# Altium schematic symbol library WE-LHCA.SchLib: 53 symbols
Pins are listed as number, name and electrical type; pins without a type are passive.

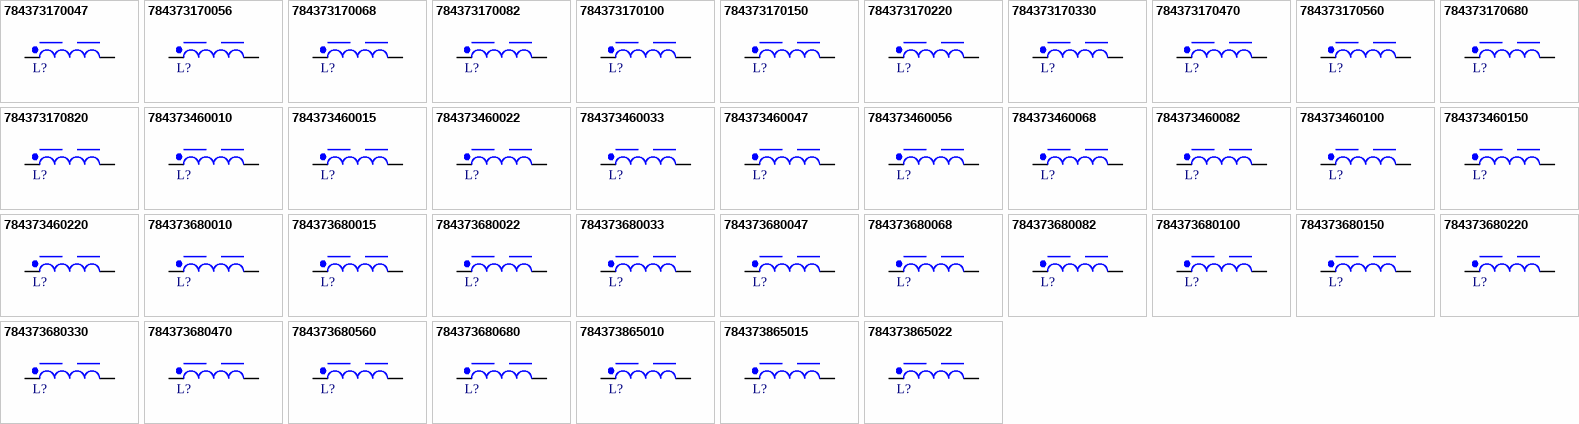
[diagram p0: symbols 784373170047 to 784373865022]

## 784373170047
designator L?, comment 4.7uH, 24.5A  (value not drawn)
WE-LHCA Low Profile High Current Inductor, SMT, size 1770, 4.7uH, 24.5A; Manufacturer Part Number: 784373170047; Manufacturer: Wurth Elektronik; Case/Size Code: 1770; DC Resistance: 4.4mOhm; Saturation Current: 39.5A; Category: Power Inductors; Match Code: WE-LHCA; ComponentLink1Description: Website Link; ComponentLink1URL: https://www.we-online.com/redexpert/article/784373170047?ad; ComponentLink2Description: Datasheet Link; ComponentLink2URL: https://www.we-online.com/redexpert/spec/784373170047?ad; Mount: Surface Mount; Operating Temperature Max: 155°C; Operating Temperature Min: -55°C; Packaging: Tape and Reel; Length: 17.45mm; Width: 16.95mm; Height: 6.8mm; Inductance: 4.7uH; Performance Rated Current: 24.5A
footprint WE-LHCA_1770
pins: 1, 2

## 784373170056
designator L?, comment 5.6uH, 21.5A  (value not drawn)
WE-LHCA Low Profile High Current Inductor, SMT, size 1770, 5.6uH, 21.5A; Manufacturer Part Number: 784373170056; Manufacturer: Wurth Elektronik; Case/Size Code: 1770; DC Resistance: 5.8mOhm; Saturation Current: 40.85A; Category: Power Inductors; Match Code: WE-LHCA; ComponentLink1Description: Website Link; ComponentLink1URL: https://www.we-online.com/redexpert/article/784373170056?ad; ComponentLink2Description: Datasheet Link; ComponentLink2URL: https://www.we-online.com/redexpert/spec/784373170056?ad; Mount: Surface Mount; Operating Temperature Max: 155°C; Operating Temperature Min: -55°C; Packaging: Tape and Reel; Length: 17.45mm; Width: 16.95mm; Height: 6.8mm; Inductance: 5.6uH; Performance Rated Current: 21.5A
footprint WE-LHCA_1770
pins: 1, 2

## 784373170068
designator L?, comment 6.8uH, 19.7A  (value not drawn)
WE-LHCA Low Profile High Current Inductor, SMT, size 1770, 6.8uH, 19.7A; Manufacturer Part Number: 784373170068; Manufacturer: Wurth Elektronik; Case/Size Code: 1770; DC Resistance: 7mOhm; Saturation Current: 33A; Category: Power Inductors; Match Code: WE-LHCA; ComponentLink1Description: Website Link; ComponentLink1URL: https://www.we-online.com/redexpert/article/784373170068?ad; ComponentLink2Description: Datasheet Link; ComponentLink2URL: https://www.we-online.com/redexpert/spec/784373170068?ad; Mount: Surface Mount; Operating Temperature Max: 155°C; Operating Temperature Min: -55°C; Packaging: Tape and Reel; Length: 17.45mm; Width: 16.95mm; Height: 6.8mm; Inductance: 6.8uH; Performance Rated Current: 19.7A
footprint WE-LHCA_1770
pins: 1, 2

## 784373170082
designator L?, comment 8.2uH, 18.4A  (value not drawn)
WE-LHCA Low Profile High Current Inductor, SMT, size 1770, 8.2uH, 18.4A; Manufacturer Part Number: 784373170082; Manufacturer: Wurth Elektronik; Case/Size Code: 1770; DC Resistance: 8.2mOhm; Saturation Current: 32.1A; Category: Power Inductors; Match Code: WE-LHCA; ComponentLink1Description: Website Link; ComponentLink1URL: https://www.we-online.com/redexpert/article/784373170082?ad; ComponentLink2Description: Datasheet Link; ComponentLink2URL: https://www.we-online.com/redexpert/spec/784373170082?ad; Mount: Surface Mount; Operating Temperature Max: 155°C; Operating Temperature Min: -55°C; Packaging: Tape and Reel; Length: 17.45mm; Width: 16.95mm; Height: 6.8mm; Inductance: 8.2uH; Performance Rated Current: 18.4A
footprint WE-LHCA_1770
pins: 1, 2

## 784373170100
designator L?, comment 10uH, 16A  (value not drawn)
WE-LHCA Low Profile High Current Inductor, SMT, size 1770, 10uH, 16A; Manufacturer Part Number: 784373170100; Manufacturer: Wurth Elektronik; Case/Size Code: 1770; DC Resistance: 10mOhm; Saturation Current: 26A; Category: Power Inductors; Match Code: WE-LHCA; ComponentLink1Description: Website Link; ComponentLink1URL: https://www.we-online.com/redexpert/article/784373170100?ad; ComponentLink2Description: Datasheet Link; ComponentLink2URL: https://www.we-online.com/redexpert/spec/784373170100?ad; Mount: Surface Mount; Operating Temperature Max: 155°C; Operating Temperature Min: -55°C; Packaging: Tape and Reel; Length: 17.45mm; Width: 16.95mm; Height: 6.8mm; Inductance: 10uH; Performance Rated Current: 16A
footprint WE-LHCA_1770
pins: 1, 2

## 784373170150
designator L?, comment 15uH, 12.4A  (value not drawn)
WE-LHCA Low Profile High Current Inductor, SMT, size 1770, 15uH, 12.4A; Manufacturer Part Number: 784373170150; Manufacturer: Wurth Elektronik; Case/Size Code: 1770; DC Resistance: 17mOhm; Saturation Current: 21.7A; Category: Power Inductors; Match Code: WE-LHCA; ComponentLink1Description: Website Link; ComponentLink1URL: https://www.we-online.com/redexpert/article/784373170150?ad; ComponentLink2Description: Datasheet Link; ComponentLink2URL: https://www.we-online.com/redexpert/spec/784373170150?ad; Mount: Surface Mount; Operating Temperature Max: 155°C; Operating Temperature Min: -55°C; Packaging: Tape and Reel; Length: 17.45mm; Width: 16.95mm; Height: 6.8mm; Inductance: 15uH; Performance Rated Current: 12.4A
footprint WE-LHCA_1770
pins: 1, 2

## 784373170220
designator L?, comment 22uH, 10.9A  (value not drawn)
WE-LHCA Low Profile High Current Inductor, SMT, size 1770, 22uH, 10.9A; Manufacturer Part Number: 784373170220; Manufacturer: Wurth Elektronik; Case/Size Code: 1770; DC Resistance: 22mOhm; Saturation Current: 17.15A; Category: Power Inductors; Match Code: WE-LHCA; ComponentLink1Description: Website Link; ComponentLink1URL: https://www.we-online.com/redexpert/article/784373170220?ad; ComponentLink2Description: Datasheet Link; ComponentLink2URL: https://www.we-online.com/redexpert/spec/784373170220?ad; Mount: Surface Mount; Operating Temperature Max: 155°C; Operating Temperature Min: -55°C; Packaging: Tape and Reel; Length: 17.45mm; Width: 16.95mm; Height: 6.8mm; Inductance: 22uH; Performance Rated Current: 10.9A
footprint WE-LHCA_1770
pins: 1, 2

## 784373170330
designator L?, comment 33uH, 9.1A  (value not drawn)
WE-LHCA Low Profile High Current Inductor, SMT, size 1770, 33uH, 9.1A; Manufacturer Part Number: 784373170330; Manufacturer: Wurth Elektronik; Case/Size Code: 1770; DC Resistance: 30mOhm; Saturation Current: 15.6A; Category: Power Inductors; Match Code: WE-LHCA; ComponentLink1Description: Website Link; ComponentLink1URL: https://www.we-online.com/redexpert/article/784373170330?ad; ComponentLink2Description: Datasheet Link; ComponentLink2URL: https://www.we-online.com/redexpert/spec/784373170330?ad; Mount: Surface Mount; Operating Temperature Max: 155°C; Operating Temperature Min: -55°C; Packaging: Tape and Reel; Length: 17.45mm; Width: 16.95mm; Height: 6.8mm; Inductance: 33uH; Performance Rated Current: 9.1A
footprint WE-LHCA_1770
pins: 1, 2

## 784373170470
designator L?, comment 47uH, 7.5A  (value not drawn)
WE-LHCA Low Profile High Current Inductor, SMT, size 1770, 47uH, 7.5A; Manufacturer Part Number: 784373170470; Manufacturer: Wurth Elektronik; Case/Size Code: 1770; DC Resistance: 48mOhm; Saturation Current: 13.05A; Category: Power Inductors; Match Code: WE-LHCA; ComponentLink1Description: Website Link; ComponentLink1URL: https://www.we-online.com/redexpert/article/784373170470?ad; ComponentLink2Description: Datasheet Link; ComponentLink2URL: https://www.we-online.com/redexpert/spec/784373170470?ad; Mount: Surface Mount; Operating Temperature Max: 155°C; Operating Temperature Min: -55°C; Packaging: Tape and Reel; Length: 17.45mm; Width: 16.95mm; Height: 6.8mm; Inductance: 47uH; Performance Rated Current: 7.5A
footprint WE-LHCA_1770
pins: 1, 2

## 784373170560
designator L?, comment 56uH, 7.1A  (value not drawn)
WE-LHCA Low Profile High Current Inductor, SMT, size 1770, 56uH, 7.1A; Manufacturer Part Number: 784373170560; Manufacturer: Wurth Elektronik; Case/Size Code: 1770; DC Resistance: 52mOhm; Saturation Current: 10.3A; Category: Power Inductors; Match Code: WE-LHCA; ComponentLink1Description: Website Link; ComponentLink1URL: https://www.we-online.com/redexpert/article/784373170560?ad; ComponentLink2Description: Datasheet Link; ComponentLink2URL: https://www.we-online.com/redexpert/spec/784373170560?ad; Mount: Surface Mount; Operating Temperature Max: 155°C; Operating Temperature Min: -55°C; Packaging: Tape and Reel; Length: 17.45mm; Width: 16.95mm; Height: 6.8mm; Inductance: 56uH; Performance Rated Current: 7.1A
footprint WE-LHCA_1770
pins: 1, 2

## 784373170680
designator L?, comment 68uH, 5.9A  (value not drawn)
WE-LHCA Low Profile High Current Inductor, SMT, size 1770, 68uH, 5.9A; Manufacturer Part Number: 784373170680; Manufacturer: Wurth Elektronik; Case/Size Code: 1770; DC Resistance: 75mOhm; Saturation Current: 8.2A; Category: Power Inductors; Match Code: WE-LHCA; ComponentLink1Description: Website Link; ComponentLink1URL: https://www.we-online.com/redexpert/article/784373170680?ad; ComponentLink2Description: Datasheet Link; ComponentLink2URL: https://www.we-online.com/redexpert/spec/784373170680?ad; Mount: Surface Mount; Operating Temperature Max: 155°C; Operating Temperature Min: -55°C; Packaging: Tape and Reel; Length: 17.45mm; Width: 16.95mm; Height: 6.8mm; Inductance: 68uH; Performance Rated Current: 5.9A
footprint WE-LHCA_1770
pins: 1, 2

## 784373170820
designator L?, comment 82uH, 4.9A  (value not drawn)
WE-LHCA Low Profile High Current Inductor, SMT, size 1770, 82uH, 4.9A; Manufacturer Part Number: 784373170820; Manufacturer: Wurth Elektronik; Case/Size Code: 1770; DC Resistance: 90mOhm; Saturation Current: 9.6A; Category: Power Inductors; Match Code: WE-LHCA; ComponentLink1Description: Website Link; ComponentLink1URL: https://www.we-online.com/redexpert/article/784373170820?ad; ComponentLink2Description: Datasheet Link; ComponentLink2URL: https://www.we-online.com/redexpert/spec/784373170820?ad; Mount: Surface Mount; Operating Temperature Max: 155°C; Operating Temperature Min: -55°C; Packaging: Tape and Reel; Length: 17.45mm; Width: 16.95mm; Height: 6.8mm; Inductance: 82uH; Performance Rated Current: 4.9A
footprint WE-LHCA_1770
pins: 1, 2

## 784373460010
designator L?, comment 1uH, 11.6A  (value not drawn)
WE-LHCA Low Profile High Current Inductor, SMT, size 7030, 1uH, 11.6A; Manufacturer Part Number: 784373460010; Manufacturer: Wurth Elektronik; Case/Size Code: 7030; DC Resistance: 6.3mOhm; Saturation Current: 19.2A; Category: Power Inductors; Match Code: WE-LHCA; ComponentLink1Description: Website Link; ComponentLink1URL: https://www.we-online.com/redexpert/article/784373460010?ad; ComponentLink2Description: Datasheet Link; ComponentLink2URL: https://www.we-online.com/redexpert/spec/784373460010?ad; Mount: Surface Mount; Operating Temperature Max: 155°C; Operating Temperature Min: -55°C; Packaging: Tape and Reel; Length: 6.95mm; Width: 6.6mm; Height: 2.8mm; Inductance: 1uH; Performance Rated Current: 11.6A
footprint WE-LHCA_7030
pins: 1, 2

## 784373460015
designator L?, comment 1.5uH, 9A  (value not drawn)
WE-LHCA Low Profile High Current Inductor, SMT, size 7030, 1.5uH, 9A; Manufacturer Part Number: 784373460015; Manufacturer: Wurth Elektronik; Case/Size Code: 7030; DC Resistance: 10.3mOhm; Saturation Current: 16A; Category: Power Inductors; Match Code: WE-LHCA; ComponentLink1Description: Website Link; ComponentLink1URL: https://www.we-online.com/redexpert/article/784373460015?ad; ComponentLink2Description: Datasheet Link; ComponentLink2URL: https://www.we-online.com/redexpert/spec/784373460015?ad; Mount: Surface Mount; Operating Temperature Max: 155°C; Operating Temperature Min: -55°C; Packaging: Tape and Reel; Length: 6.95mm; Width: 6.6mm; Height: 2.8mm; Inductance: 1.5uH; Performance Rated Current: 9A
footprint WE-LHCA_7030
pins: 1, 2

## 784373460022
designator L?, comment 2.2uH, 7.5A  (value not drawn)
WE-LHCA Low Profile High Current Inductor, SMT, size 7030, 2.2uH, 7.5A; Manufacturer Part Number: 784373460022; Manufacturer: Wurth Elektronik; Case/Size Code: 7030; DC Resistance: 15mOhm; Saturation Current: 12A; Category: Power Inductors; Match Code: WE-LHCA; ComponentLink1Description: Website Link; ComponentLink1URL: https://www.we-online.com/redexpert/article/784373460022?ad; ComponentLink2Description: Datasheet Link; ComponentLink2URL: https://www.we-online.com/redexpert/spec/784373460022?ad; Mount: Surface Mount; Operating Temperature Max: 155°C; Operating Temperature Min: -55°C; Packaging: Tape and Reel; Length: 6.95mm; Width: 6.6mm; Height: 2.8mm; Inductance: 2.2uH; Performance Rated Current: 7.5A
footprint WE-LHCA_7030
pins: 1, 2

## 784373460033
designator L?, comment 3.3uH, 6.3A  (value not drawn)
WE-LHCA Low Profile High Current Inductor, SMT, size 7030, 3.3uH, 6.3A; Manufacturer Part Number: 784373460033; Manufacturer: Wurth Elektronik; Case/Size Code: 7030; DC Resistance: 21mOhm; Saturation Current: 11.4A; Category: Power Inductors; Match Code: WE-LHCA; ComponentLink1Description: Website Link; ComponentLink1URL: https://www.we-online.com/redexpert/article/784373460033?ad; ComponentLink2Description: Datasheet Link; ComponentLink2URL: https://www.we-online.com/redexpert/spec/784373460033?ad; Mount: Surface Mount; Operating Temperature Max: 155°C; Operating Temperature Min: -55°C; Packaging: Tape and Reel; Length: 6.95mm; Width: 6.6mm; Height: 2.8mm; Inductance: 3.3uH; Performance Rated Current: 6.3A
footprint WE-LHCA_7030
pins: 1, 2

## 784373460047
designator L?, comment 4.7uH, 5.6A  (value not drawn)
WE-LHCA Low Profile High Current Inductor, SMT, size 7030, 4.7uH, 5.6A; Manufacturer Part Number: 784373460047; Manufacturer: Wurth Elektronik; Case/Size Code: 7030; DC Resistance: 27mOhm; Saturation Current: 9.3A; Category: Power Inductors; Match Code: WE-LHCA; ComponentLink1Description: Website Link; ComponentLink1URL: https://www.we-online.com/redexpert/article/784373460047?ad; ComponentLink2Description: Datasheet Link; ComponentLink2URL: https://www.we-online.com/redexpert/spec/784373460047?ad; Mount: Surface Mount; Operating Temperature Max: 155°C; Operating Temperature Min: -55°C; Packaging: Tape and Reel; Length: 6.95mm; Width: 6.6mm; Height: 2.8mm; Inductance: 4.7uH; Performance Rated Current: 5.6A
footprint WE-LHCA_7030
pins: 1, 2

## 784373460056
designator L?, comment 5.6uH, 4.9A  (value not drawn)
WE-LHCA Low Profile High Current Inductor, SMT, size 7030, 5.6uH, 4.9A; Manufacturer Part Number: 784373460056; Manufacturer: Wurth Elektronik; Case/Size Code: 7030; DC Resistance: 35mOhm; Saturation Current: 8A; Category: Power Inductors; Match Code: WE-LHCA; ComponentLink1Description: Website Link; ComponentLink1URL: https://www.we-online.com/redexpert/article/784373460056?ad; ComponentLink2Description: Datasheet Link; ComponentLink2URL: https://www.we-online.com/redexpert/spec/784373460056?ad; Mount: Surface Mount; Operating Temperature Max: 155°C; Operating Temperature Min: -55°C; Packaging: Tape and Reel; Length: 6.95mm; Width: 6.6mm; Height: 2.8mm; Inductance: 5.6uH; Performance Rated Current: 4.9A
footprint WE-LHCA_7030
pins: 1, 2

## 784373460068
designator L?, comment 6.8uH, 4.5A  (value not drawn)
WE-LHCA Low Profile High Current Inductor, SMT, size 7030, 6.8uH, 4.5A; Manufacturer Part Number: 784373460068; Manufacturer: Wurth Elektronik; Case/Size Code: 7030; DC Resistance: 41mOhm; Saturation Current: 7.7A; Category: Power Inductors; Match Code: WE-LHCA; ComponentLink1Description: Website Link; ComponentLink1URL: https://www.we-online.com/redexpert/article/784373460068?ad; ComponentLink2Description: Datasheet Link; ComponentLink2URL: https://www.we-online.com/redexpert/spec/784373460068?ad; Mount: Surface Mount; Operating Temperature Max: 155°C; Operating Temperature Min: -55°C; Packaging: Tape and Reel; Length: 6.95mm; Width: 6.6mm; Height: 2.8mm; Inductance: 6.8uH; Performance Rated Current: 4.5A
footprint WE-LHCA_7030
pins: 1, 2

## 784373460082
designator L?, comment 8.2uH, 4.1A  (value not drawn)
WE-LHCA Low Profile High Current Inductor, SMT, size 7030, 8.2uH, 4.1A; Manufacturer Part Number: 784373460082; Manufacturer: Wurth Elektronik; Case/Size Code: 7030; DC Resistance: 50mOhm; Saturation Current: 5.5A; Category: Power Inductors; Match Code: WE-LHCA; ComponentLink1Description: Website Link; ComponentLink1URL: https://www.we-online.com/redexpert/article/784373460082?ad; ComponentLink2Description: Datasheet Link; ComponentLink2URL: https://www.we-online.com/redexpert/spec/784373460082?ad; Mount: Surface Mount; Operating Temperature Max: 155°C; Operating Temperature Min: -55°C; Packaging: Tape and Reel; Length: 6.95mm; Width: 6.6mm; Height: 2.8mm; Inductance: 8.2uH; Performance Rated Current: 4.1A
footprint WE-LHCA_7030
pins: 1, 2

## 784373460100
designator L?, comment 10uH, 3.7A  (value not drawn)
WE-LHCA Low Profile High Current Inductor, SMT, size 7030, 10uH, 3.7A; Manufacturer Part Number: 784373460100; Manufacturer: Wurth Elektronik; Case/Size Code: 7030; DC Resistance: 61mOhm; Saturation Current: 6A; Category: Power Inductors; Match Code: WE-LHCA; ComponentLink1Description: Website Link; ComponentLink1URL: https://www.we-online.com/redexpert/article/784373460100?ad; ComponentLink2Description: Datasheet Link; ComponentLink2URL: https://www.we-online.com/redexpert/spec/784373460100?ad; Mount: Surface Mount; Operating Temperature Max: 155°C; Operating Temperature Min: -55°C; Packaging: Tape and Reel; Length: 6.95mm; Width: 6.6mm; Height: 2.8mm; Inductance: 10uH; Performance Rated Current: 3.7A
footprint WE-LHCA_7030
pins: 1, 2

## 784373460150
designator L?, comment 15uH, 3A  (value not drawn)
WE-LHCA Low Profile High Current Inductor, SMT, size 7030, 15uH, 3A; Manufacturer Part Number: 784373460150; Manufacturer: Wurth Elektronik; Case/Size Code: 7030; DC Resistance: 96mOhm; Saturation Current: 4.8A; Category: Power Inductors; Match Code: WE-LHCA; ComponentLink1Description: Website Link; ComponentLink1URL: https://www.we-online.com/redexpert/article/784373460150?ad; ComponentLink2Description: Datasheet Link; ComponentLink2URL: https://www.we-online.com/redexpert/spec/784373460150?ad; Mount: Surface Mount; Operating Temperature Max: 155°C; Operating Temperature Min: -55°C; Packaging: Tape and Reel; Length: 6.95mm; Width: 6.6mm; Height: 2.8mm; Inductance: 15uH; Performance Rated Current: 3A
footprint WE-LHCA_7030
pins: 1, 2

## 784373460220
designator L?, comment 22uH, 2.5A  (value not drawn)
WE-LHCA Low Profile High Current Inductor, SMT, size 7030, 22uH, 2.5A; Manufacturer Part Number: 784373460220; Manufacturer: Wurth Elektronik; Case/Size Code: 7030; DC Resistance: 163mOhm; Saturation Current: 4.5A; Category: Power Inductors; Match Code: WE-LHCA; ComponentLink1Description: Website Link; ComponentLink1URL: https://www.we-online.com/redexpert/article/784373460220?ad; ComponentLink2Description: Datasheet Link; ComponentLink2URL: https://www.we-online.com/redexpert/spec/784373460220?ad; Mount: Surface Mount; Operating Temperature Max: 155°C; Operating Temperature Min: -55°C; Packaging: Tape and Reel; Length: 6.95mm; Width: 6.6mm; Height: 2.8mm; Inductance: 22uH; Performance Rated Current: 2.5A
footprint WE-LHCA_7030
pins: 1, 2

## 784373680010
designator L?, comment 1uH, 24.5A  (value not drawn)
WE-LHCA Low Profile High Current Inductor, SMT, size 1040, 1uH, 24.5A; Manufacturer Part Number: 784373680010; Manufacturer: Wurth Elektronik; Case/Size Code: 1040; DC Resistance: 2.7mOhm; Saturation Current: 33.8A; Category: Power Inductors; Match Code: WE-LHCA; ComponentLink1Description: Website Link; ComponentLink1URL: https://www.we-online.com/redexpert/article/784373680010?ad; ComponentLink2Description: Datasheet Link; ComponentLink2URL: https://www.we-online.com/redexpert/spec/784373680010?ad; Mount: Surface Mount; Operating Temperature Max: 155°C; Operating Temperature Min: -55°C; Packaging: Tape and Reel; Length: 10.85mm; Width: 10mm; Height: 3.8mm; Inductance: 1uH; Performance Rated Current: 24.5A
footprint WE-LHCA_1040
pins: 1, 2

## 784373680015
designator L?, comment 1.5uH, 19.2A  (value not drawn)
WE-LHCA Low Profile High Current Inductor, SMT, size 1040, 1.5uH, 19.2A; Manufacturer Part Number: 784373680015; Manufacturer: Wurth Elektronik; Case/Size Code: 1040; DC Resistance: 4.2mOhm; Saturation Current: 26A; Category: Power Inductors; Match Code: WE-LHCA; ComponentLink1Description: Website Link; ComponentLink1URL: https://www.we-online.com/redexpert/article/784373680015?ad; ComponentLink2Description: Datasheet Link; ComponentLink2URL: https://www.we-online.com/redexpert/spec/784373680015?ad; Mount: Surface Mount; Operating Temperature Max: 155°C; Operating Temperature Min: -55°C; Packaging: Tape and Reel; Length: 10.85mm; Width: 10mm; Height: 3.8mm; Inductance: 1.5uH; Performance Rated Current: 19.2A
footprint WE-LHCA_1040
pins: 1, 2

## 784373680022
designator L?, comment 2.2uH, 13.6A  (value not drawn)
WE-LHCA Low Profile High Current Inductor, SMT, size 1040, 2.2uH, 13.6A; Manufacturer Part Number: 784373680022; Manufacturer: Wurth Elektronik; Case/Size Code: 1040; DC Resistance: 7.8mOhm; Saturation Current: 25.7A; Category: Power Inductors; Match Code: WE-LHCA; ComponentLink1Description: Website Link; ComponentLink1URL: https://www.we-online.com/redexpert/article/784373680022?ad; ComponentLink2Description: Datasheet Link; ComponentLink2URL: https://www.we-online.com/redexpert/spec/784373680022?ad; Mount: Surface Mount; Operating Temperature Max: 155°C; Operating Temperature Min: -55°C; Packaging: Tape and Reel; Length: 10.85mm; Width: 10mm; Height: 3.8mm; Inductance: 2.2uH; Performance Rated Current: 13.6A
footprint WE-LHCA_1040
pins: 1, 2

## 784373680033
designator L?, comment 3.3uH, 11.8A  (value not drawn)
WE-LHCA Low Profile High Current Inductor, SMT, size 1040, 3.3uH, 11.8A; Manufacturer Part Number: 784373680033; Manufacturer: Wurth Elektronik; Case/Size Code: 1040; DC Resistance: 9.9mOhm; Saturation Current: 22.1A; Category: Power Inductors; Match Code: WE-LHCA; ComponentLink1Description: Website Link; ComponentLink1URL: https://www.we-online.com/redexpert/article/784373680033?ad; ComponentLink2Description: Datasheet Link; ComponentLink2URL: https://www.we-online.com/redexpert/spec/784373680033?ad; Mount: Surface Mount; Operating Temperature Max: 155°C; Operating Temperature Min: -55°C; Packaging: Tape and Reel; Length: 10.85mm; Width: 10mm; Height: 3.8mm; Inductance: 3.3uH; Performance Rated Current: 11.8A
footprint WE-LHCA_1040
pins: 1, 2

## 784373680047
designator L?, comment 4.7uH, 10.9A  (value not drawn)
WE-LHCA Low Profile High Current Inductor, SMT, size 1040, 4.7uH, 10.9A; Manufacturer Part Number: 784373680047; Manufacturer: Wurth Elektronik; Case/Size Code: 1040; DC Resistance: 13.5mOhm; Saturation Current: 16A; Category: Power Inductors; Match Code: WE-LHCA; ComponentLink1Description: Website Link; ComponentLink1URL: https://www.we-online.com/redexpert/article/784373680047?ad; ComponentLink2Description: Datasheet Link; ComponentLink2URL: https://www.we-online.com/redexpert/spec/784373680047?ad; Mount: Surface Mount; Operating Temperature Max: 155°C; Operating Temperature Min: -55°C; Packaging: Tape and Reel; Length: 10.85mm; Width: 10mm; Height: 3.8mm; Inductance: 4.7uH; Performance Rated Current: 10.9A
footprint WE-LHCA_1040
pins: 1, 2

## 784373680068
designator L?, comment 6.8uH, 9.5A  (value not drawn)
WE-LHCA Low Profile High Current Inductor, SMT, size 1040, 6.8uH, 9.5A; Manufacturer Part Number: 784373680068; Manufacturer: Wurth Elektronik; Case/Size Code: 1040; DC Resistance: 19mOhm; Saturation Current: 13.2A; Category: Power Inductors; Match Code: WE-LHCA; ComponentLink1Description: Website Link; ComponentLink1URL: https://www.we-online.com/redexpert/article/784373680068?ad; ComponentLink2Description: Datasheet Link; ComponentLink2URL: https://www.we-online.com/redexpert/spec/784373680068?ad; Mount: Surface Mount; Operating Temperature Max: 155°C; Operating Temperature Min: -55°C; Packaging: Tape and Reel; Length: 10.85mm; Width: 10mm; Height: 3.8mm; Inductance: 6.8uH; Performance Rated Current: 9.5A
footprint WE-LHCA_1040
pins: 1, 2

## 784373680082
designator L?, comment 8.2uH, 8.7A  (value not drawn)
WE-LHCA Low Profile High Current Inductor, SMT, size 1040, 8.2uH, 8.7A; Manufacturer Part Number: 784373680082; Manufacturer: Wurth Elektronik; Case/Size Code: 1040; DC Resistance: 25mOhm; Saturation Current: 13.1A; Category: Power Inductors; Match Code: WE-LHCA; ComponentLink1Description: Website Link; ComponentLink1URL: https://www.we-online.com/redexpert/article/784373680082?ad; ComponentLink2Description: Datasheet Link; ComponentLink2URL: https://www.we-online.com/redexpert/spec/784373680082?ad; Mount: Surface Mount; Operating Temperature Max: 155°C; Operating Temperature Min: -55°C; Packaging: Tape and Reel; Length: 10.85mm; Width: 10mm; Height: 3.8mm; Inductance: 8.2uH; Performance Rated Current: 8.7A
footprint WE-LHCA_1040
pins: 1, 2

## 784373680100
designator L?, comment 10uH, 7.8A  (value not drawn)
WE-LHCA Low Profile High Current Inductor, SMT, size 1040, 10uH, 7.8A; Manufacturer Part Number: 784373680100; Manufacturer: Wurth Elektronik; Case/Size Code: 1040; DC Resistance: 28mOhm; Saturation Current: 12.2A; Category: Power Inductors; Match Code: WE-LHCA; ComponentLink1Description: Website Link; ComponentLink1URL: https://www.we-online.com/redexpert/article/784373680100?ad; ComponentLink2Description: Datasheet Link; ComponentLink2URL: https://www.we-online.com/redexpert/spec/784373680100?ad; Mount: Surface Mount; Operating Temperature Max: 155°C; Operating Temperature Min: -55°C; Packaging: Tape and Reel; Length: 10.85mm; Width: 10mm; Height: 3.8mm; Inductance: 10uH; Performance Rated Current: 7.8A
footprint WE-LHCA_1040
pins: 1, 2

## 784373680150
designator L?, comment 15uH, 6.8A  (value not drawn)
WE-LHCA Low Profile High Current Inductor, SMT, size 1040, 15uH, 6.8A; Manufacturer Part Number: 784373680150; Manufacturer: Wurth Elektronik; Case/Size Code: 1040; DC Resistance: 42mOhm; Saturation Current: 9.9A; Category: Power Inductors; Match Code: WE-LHCA; ComponentLink1Description: Website Link; ComponentLink1URL: https://www.we-online.com/redexpert/article/784373680150?ad; ComponentLink2Description: Datasheet Link; ComponentLink2URL: https://www.we-online.com/redexpert/spec/784373680150?ad; Mount: Surface Mount; Operating Temperature Max: 155°C; Operating Temperature Min: -55°C; Packaging: Tape and Reel; Length: 10.85mm; Width: 10mm; Height: 3.8mm; Inductance: 15uH; Performance Rated Current: 6.8A
footprint WE-LHCA_1040
pins: 1, 2

## 784373680220
designator L?, comment 22uH, 5.2A  (value not drawn)
WE-LHCA Low Profile High Current Inductor, SMT, size 1040, 22uH, 5.2A; Manufacturer Part Number: 784373680220; Manufacturer: Wurth Elektronik; Case/Size Code: 1040; DC Resistance: 59mOhm; Saturation Current: 7.5A; Category: Power Inductors; Match Code: WE-LHCA; ComponentLink1Description: Website Link; ComponentLink1URL: https://www.we-online.com/redexpert/article/784373680220?ad; ComponentLink2Description: Datasheet Link; ComponentLink2URL: https://www.we-online.com/redexpert/spec/784373680220?ad; Mount: Surface Mount; Operating Temperature Max: 155°C; Operating Temperature Min: -55°C; Packaging: Tape and Reel; Length: 10.85mm; Width: 10mm; Height: 3.8mm; Inductance: 22uH; Performance Rated Current: 5.2A
footprint WE-LHCA_1040
pins: 1, 2

## 784373680330
designator L?, comment 33uH, 4.1A  (value not drawn)
WE-LHCA Low Profile High Current Inductor, SMT, size 1040, 33uH, 4.1A; Manufacturer Part Number: 784373680330; Manufacturer: Wurth Elektronik; Case/Size Code: 1040; DC Resistance: 87mOhm; Saturation Current: 6.5A; Category: Power Inductors; Match Code: WE-LHCA; ComponentLink1Description: Website Link; ComponentLink1URL: https://www.we-online.com/redexpert/article/784373680330?ad; ComponentLink2Description: Datasheet Link; ComponentLink2URL: https://www.we-online.com/redexpert/spec/784373680330?ad; Mount: Surface Mount; Operating Temperature Max: 155°C; Operating Temperature Min: -55°C; Packaging: Tape and Reel; Length: 10.85mm; Width: 10mm; Height: 3.8mm; Inductance: 33uH; Performance Rated Current: 4.1A
footprint WE-LHCA_1040
pins: 1, 2

## 784373680470
designator L?, comment 47uH, 3.4A  (value not drawn)
WE-LHCA Low Profile High Current Inductor, SMT, size 1040, 47uH, 3.4A; Manufacturer Part Number: 784373680470; Manufacturer: Wurth Elektronik; Case/Size Code: 1040; DC Resistance: 140mOhm; Saturation Current: 5.85A; Category: Power Inductors; Match Code: WE-LHCA; ComponentLink1Description: Website Link; ComponentLink1URL: https://www.we-online.com/redexpert/article/784373680470?ad; ComponentLink2Description: Datasheet Link; ComponentLink2URL: https://www.we-online.com/redexpert/spec/784373680470?ad; Mount: Surface Mount; Operating Temperature Max: 155°C; Operating Temperature Min: -55°C; Packaging: Tape and Reel; Length: 10.85mm; Width: 10mm; Height: 3.8mm; Inductance: 47uH; Performance Rated Current: 3.4A
footprint WE-LHCA_1040
pins: 1, 2

## 784373680560
designator L?, comment 56uH, 2.9A  (value not drawn)
WE-LHCA Low Profile High Current Inductor, SMT, size 1040, 56uH, 2.9A; Manufacturer Part Number: 784373680560; Manufacturer: Wurth Elektronik; Case/Size Code: 1040; DC Resistance: 170mOhm; Saturation Current: 5.5A; Category: Power Inductors; Match Code: WE-LHCA; ComponentLink1Description: Website Link; ComponentLink1URL: https://www.we-online.com/redexpert/article/784373680560?ad; ComponentLink2Description: Datasheet Link; ComponentLink2URL: https://www.we-online.com/redexpert/spec/784373680560?ad; Mount: Surface Mount; Operating Temperature Max: 155°C; Operating Temperature Min: -55°C; Packaging: Tape and Reel; Length: 10.85mm; Width: 10mm; Height: 3.8mm; Inductance: 56uH; Performance Rated Current: 2.9A
footprint WE-LHCA_1040
pins: 1, 2

## 784373680680
designator L?, comment 68uH, 2.6A  (value not drawn)
WE-LHCA Low Profile High Current Inductor, SMT, size 1040, 68uH, 2.6A; Manufacturer Part Number: 784373680680; Manufacturer: Wurth Elektronik; Case/Size Code: 1040; DC Resistance: 215mOhm; Saturation Current: 4.85A; Category: Power Inductors; Match Code: WE-LHCA; ComponentLink1Description: Website Link; ComponentLink1URL: https://www.we-online.com/redexpert/article/784373680680?ad; ComponentLink2Description: Datasheet Link; ComponentLink2URL: https://www.we-online.com/redexpert/spec/784373680680?ad; Mount: Surface Mount; Operating Temperature Max: 155°C; Operating Temperature Min: -55°C; Packaging: Tape and Reel; Length: 10.85mm; Width: 10mm; Height: 3.8mm; Inductance: 68uH; Performance Rated Current: 2.6A
footprint WE-LHCA_1040
pins: 1, 2

## 784373865010
designator L?, comment 1uH, 30.5A  (value not drawn)
WE-LHCA Low Profile High Current Inductor, SMT, size 1365, 1uH, 30.5A; Manufacturer Part Number: 784373865010; Manufacturer: Wurth Elektronik; Case/Size Code: 1365; DC Resistance: 1.7mOhm; Saturation Current: 44.8A; Category: Power Inductors; Match Code: WE-LHCA; ComponentLink1Description: Website Link; ComponentLink1URL: https://www.we-online.com/redexpert/article/784373865010?ad; ComponentLink2Description: Datasheet Link; ComponentLink2URL: https://www.we-online.com/redexpert/spec/784373865010?ad; Mount: Surface Mount; Operating Temperature Max: 155°C; Operating Temperature Min: -55°C; Packaging: Tape and Reel; Length: 13.45mm; Width: 12.6mm; Height: 6.3mm; Inductance: 1uH; Performance Rated Current: 30.5A
footprint WE-LHCA_1365
pins: 1, 2

## 784373865015
designator L?, comment 1.5uH, 26A  (value not drawn)
WE-LHCA Low Profile High Current Inductor, SMT, size 1365, 1.5uH, 26A; Manufacturer Part Number: 784373865015; Manufacturer: Wurth Elektronik; Case/Size Code: 1365; DC Resistance: 2.2mOhm; Saturation Current: 32.1A; Category: Power Inductors; Match Code: WE-LHCA; ComponentLink1Description: Website Link; ComponentLink1URL: https://www.we-online.com/redexpert/article/784373865015?ad; ComponentLink2Description: Datasheet Link; ComponentLink2URL: https://www.we-online.com/redexpert/spec/784373865015?ad; Mount: Surface Mount; Operating Temperature Max: 155°C; Operating Temperature Min: -55°C; Packaging: Tape and Reel; Length: 13.45mm; Width: 12.6mm; Height: 6.3mm; Inductance: 1.5uH; Performance Rated Current: 26A
footprint WE-LHCA_1365
pins: 1, 2

## 784373865022
designator L?, comment 2.2uH, 22A  (value not drawn)
WE-LHCA Low Profile High Current Inductor, SMT, size 1365, 2.2uH, 22A; Manufacturer Part Number: 784373865022; Manufacturer: Wurth Elektronik; Case/Size Code: 1365; DC Resistance: 4mOhm; Saturation Current: 33.35A; Category: Power Inductors; Match Code: WE-LHCA; ComponentLink1Description: Website Link; ComponentLink1URL: https://www.we-online.com/redexpert/article/784373865022?ad; ComponentLink2Description: Datasheet Link; ComponentLink2URL: https://www.we-online.com/redexpert/spec/784373865022?ad; Mount: Surface Mount; Operating Temperature Max: 155°C; Operating Temperature Min: -55°C; Packaging: Tape and Reel; Length: 13.45mm; Width: 12.6mm; Height: 6.3mm; Inductance: 2.2uH; Performance Rated Current: 22A
footprint WE-LHCA_1365
pins: 1, 2

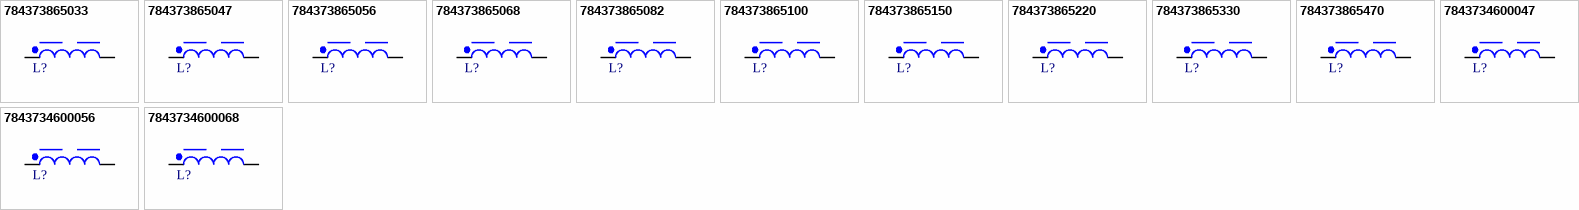
[diagram p1: symbols 784373865033 to 7843734600068]

## 784373865033
designator L?, comment 3.3uH, 19A  (value not drawn)
WE-LHCA Low Profile High Current Inductor, SMT, size 1365, 3.3uH, 19A; Manufacturer Part Number: 784373865033; Manufacturer: Wurth Elektronik; Case/Size Code: 1365; DC Resistance: 5mOhm; Saturation Current: 27.1A; Category: Power Inductors; Match Code: WE-LHCA; ComponentLink1Description: Website Link; ComponentLink1URL: https://www.we-online.com/redexpert/article/784373865033?ad; ComponentLink2Description: Datasheet Link; ComponentLink2URL: https://www.we-online.com/redexpert/spec/784373865033?ad; Mount: Surface Mount; Operating Temperature Max: 155°C; Operating Temperature Min: -55°C; Packaging: Tape and Reel; Length: 13.45mm; Width: 12.6mm; Height: 6.3mm; Inductance: 3.3uH; Performance Rated Current: 19A
footprint WE-LHCA_1365
pins: 1, 2

## 784373865047
designator L?, comment 4.7uH, 15.5A  (value not drawn)
WE-LHCA Low Profile High Current Inductor, SMT, size 1365, 4.7uH, 15.5A; Manufacturer Part Number: 784373865047; Manufacturer: Wurth Elektronik; Case/Size Code: 1365; DC Resistance: 7.9mOhm; Saturation Current: 21.35A; Category: Power Inductors; Match Code: WE-LHCA; ComponentLink1Description: Website Link; ComponentLink1URL: https://www.we-online.com/redexpert/article/784373865047?ad; ComponentLink2Description: Datasheet Link; ComponentLink2URL: https://www.we-online.com/redexpert/spec/784373865047?ad; Mount: Surface Mount; Operating Temperature Max: 155°C; Operating Temperature Min: -55°C; Packaging: Tape and Reel; Length: 13.45mm; Width: 12.6mm; Height: 6.3mm; Inductance: 4.7uH; Performance Rated Current: 15.5A
footprint WE-LHCA_1365
pins: 1, 2

## 784373865056
designator L?, comment 5.6uH, 13A  (value not drawn)
WE-LHCA Low Profile High Current Inductor, SMT, size 1365, 5.6uH, 13A; Manufacturer Part Number: 784373865056; Manufacturer: Wurth Elektronik; Case/Size Code: 1365; DC Resistance: 9.3mOhm; Saturation Current: 23.1A; Category: Power Inductors; Match Code: WE-LHCA; ComponentLink1Description: Website Link; ComponentLink1URL: https://www.we-online.com/redexpert/article/784373865056?ad; ComponentLink2Description: Datasheet Link; ComponentLink2URL: https://www.we-online.com/redexpert/spec/784373865056?ad; Mount: Surface Mount; Operating Temperature Max: 155°C; Operating Temperature Min: -55°C; Packaging: Tape and Reel; Length: 13.45mm; Width: 12.6mm; Height: 6.3mm; Inductance: 5.6uH; Performance Rated Current: 13A
footprint WE-LHCA_1365
pins: 1, 2

## 784373865068
designator L?, comment 6.8uH, 12A  (value not drawn)
WE-LHCA Low Profile High Current Inductor, SMT, size 1365, 6.8uH, 12A; Manufacturer Part Number: 784373865068; Manufacturer: Wurth Elektronik; Case/Size Code: 1365; DC Resistance: 10mOhm; Saturation Current: 23.3A; Category: Power Inductors; Match Code: WE-LHCA; ComponentLink1Description: Website Link; ComponentLink1URL: https://www.we-online.com/redexpert/article/784373865068?ad; ComponentLink2Description: Datasheet Link; ComponentLink2URL: https://www.we-online.com/redexpert/spec/784373865068?ad; Mount: Surface Mount; Operating Temperature Max: 155°C; Operating Temperature Min: -55°C; Packaging: Tape and Reel; Length: 13.45mm; Width: 12.6mm; Height: 6.3mm; Inductance: 6.8uH; Performance Rated Current: 12A
footprint WE-LHCA_1365
pins: 1, 2

## 784373865082
designator L?, comment 8.2uH, 11.6A  (value not drawn)
WE-LHCA Low Profile High Current Inductor, SMT, size 1365, 8.2uH, 11.6A; Manufacturer Part Number: 784373865082; Manufacturer: Wurth Elektronik; Case/Size Code: 1365; DC Resistance: 12mOhm; Saturation Current: 20.2A; Category: Power Inductors; Match Code: WE-LHCA; ComponentLink1Description: Website Link; ComponentLink1URL: https://www.we-online.com/redexpert/article/784373865082?ad; ComponentLink2Description: Datasheet Link; ComponentLink2URL: https://www.we-online.com/redexpert/spec/784373865082?ad; Mount: Surface Mount; Operating Temperature Max: 155°C; Operating Temperature Min: -55°C; Packaging: Tape and Reel; Length: 13.45mm; Width: 12.6mm; Height: 6.3mm; Inductance: 8.2uH; Performance Rated Current: 11.6A
footprint WE-LHCA_1365
pins: 1, 2

## 784373865100
designator L?, comment 10uH, 10.4A  (value not drawn)
WE-LHCA Low Profile High Current Inductor, SMT, size 1365, 10uH, 10.4A; Manufacturer Part Number: 784373865100; Manufacturer: Wurth Elektronik; Case/Size Code: 1365; DC Resistance: 15mOhm; Saturation Current: 15.9A; Category: Power Inductors; Match Code: WE-LHCA; ComponentLink1Description: Website Link; ComponentLink1URL: https://www.we-online.com/redexpert/article/784373865100?ad; ComponentLink2Description: Datasheet Link; ComponentLink2URL: https://www.we-online.com/redexpert/spec/784373865100?ad; Mount: Surface Mount; Operating Temperature Max: 155°C; Operating Temperature Min: -55°C; Packaging: Tape and Reel; Length: 13.45mm; Width: 12.6mm; Height: 6.3mm; Inductance: 10uH; Performance Rated Current: 10.4A
footprint WE-LHCA_1365
pins: 1, 2

## 784373865150
designator L?, comment 15uH, 8.8A  (value not drawn)
WE-LHCA Low Profile High Current Inductor, SMT, size 1365, 15uH, 8.8A; Manufacturer Part Number: 784373865150; Manufacturer: Wurth Elektronik; Case/Size Code: 1365; DC Resistance: 24.5mOhm; Saturation Current: 11.45A; Category: Power Inductors; Match Code: WE-LHCA; ComponentLink1Description: Website Link; ComponentLink1URL: https://www.we-online.com/redexpert/article/784373865150?ad; ComponentLink2Description: Datasheet Link; ComponentLink2URL: https://www.we-online.com/redexpert/spec/784373865150?ad; Mount: Surface Mount; Operating Temperature Max: 155°C; Operating Temperature Min: -55°C; Packaging: Tape and Reel; Length: 13.45mm; Width: 12.6mm; Height: 6.3mm; Inductance: 15uH; Performance Rated Current: 8.8A
footprint WE-LHCA_1365
pins: 1, 2

## 784373865220
designator L?, comment 22uH, 7.1A  (value not drawn)
WE-LHCA Low Profile High Current Inductor, SMT, size 1365, 22uH, 7.1A; Manufacturer Part Number: 784373865220; Manufacturer: Wurth Elektronik; Case/Size Code: 1365; DC Resistance: 35mOhm; Saturation Current: 10.75A; Category: Power Inductors; Match Code: WE-LHCA; ComponentLink1Description: Website Link; ComponentLink1URL: https://www.we-online.com/redexpert/article/784373865220?ad; ComponentLink2Description: Datasheet Link; ComponentLink2URL: https://www.we-online.com/redexpert/spec/784373865220?ad; Mount: Surface Mount; Operating Temperature Max: 155°C; Operating Temperature Min: -55°C; Packaging: Tape and Reel; Length: 13.45mm; Width: 12.6mm; Height: 6.3mm; Inductance: 22uH; Performance Rated Current: 7.1A
footprint WE-LHCA_1365
pins: 1, 2

## 784373865330
designator L?, comment 33uH, 5.7A  (value not drawn)
WE-LHCA Low Profile High Current Inductor, SMT, size 1365, 33uH, 5.7A; Manufacturer Part Number: 784373865330; Manufacturer: Wurth Elektronik; Case/Size Code: 1365; DC Resistance: 60mOhm; Saturation Current: 8.45A; Category: Power Inductors; Match Code: WE-LHCA; ComponentLink1Description: Website Link; ComponentLink1URL: https://www.we-online.com/redexpert/article/784373865330?ad; ComponentLink2Description: Datasheet Link; ComponentLink2URL: https://www.we-online.com/redexpert/spec/784373865330?ad; Mount: Surface Mount; Operating Temperature Max: 155°C; Operating Temperature Min: -55°C; Packaging: Tape and Reel; Length: 13.45mm; Width: 12.6mm; Height: 6.3mm; Inductance: 33uH; Performance Rated Current: 5.7A
footprint WE-LHCA_1365
pins: 1, 2

## 784373865470
designator L?, comment 47uH, 5.1A  (value not drawn)
WE-LHCA Low Profile High Current Inductor, SMT, size 1365, 47uH, 5.1A; Manufacturer Part Number: 784373865470; Manufacturer: Wurth Elektronik; Case/Size Code: 1365; DC Resistance: 72mOhm; Saturation Current: 6.5A; Category: Power Inductors; Match Code: WE-LHCA; ComponentLink1Description: Website Link; ComponentLink1URL: https://www.we-online.com/redexpert/article/784373865470?ad; ComponentLink2Description: Datasheet Link; ComponentLink2URL: https://www.we-online.com/redexpert/spec/784373865470?ad; Mount: Surface Mount; Operating Temperature Max: 155°C; Operating Temperature Min: -55°C; Packaging: Tape and Reel; Length: 13.45mm; Width: 12.6mm; Height: 6.3mm; Inductance: 47uH; Performance Rated Current: 5.1A
footprint WE-LHCA_1365
pins: 1, 2

## 7843734600047
designator L?, comment 0.47uH, 13.8A  (value not drawn)
WE-LHCA Low Profile High Current Inductor, SMT, size 7030, 0.47uH, 13.8A; Manufacturer Part Number: 7843734600047; Manufacturer: Wurth Elektronik; Case/Size Code: 7030; DC Resistance: 3.8mOhm; Saturation Current: 26A; Category: Power Inductors; Match Code: WE-LHCA; ComponentLink1Description: Website Link; ComponentLink1URL: https://www.we-online.com/redexpert/article/7843734600047?ad; ComponentLink2Description: Datasheet Link; ComponentLink2URL: https://www.we-online.com/redexpert/spec/7843734600047?ad; Mount: Surface Mount; Operating Temperature Max: 155°C; Operating Temperature Min: -55°C; Packaging: Tape and Reel; Length: 6.95mm; Width: 6.6mm; Height: 2.8mm; Inductance: 0.47uH; Performance Rated Current: 13.8A
footprint WE-LHCA_7030
pins: 1, 2

## 7843734600056
designator L?, comment 0.56uH, 13.4A  (value not drawn)
WE-LHCA Low Profile High Current Inductor, SMT, size 7030, 0.56uH, 13.4A; Manufacturer Part Number: 7843734600056; Manufacturer: Wurth Elektronik; Case/Size Code: 7030; DC Resistance: 4.2mOhm; Saturation Current: 21.9A; Category: Power Inductors; Match Code: WE-LHCA; ComponentLink1Description: Website Link; ComponentLink1URL: https://www.we-online.com/redexpert/article/7843734600056?ad; ComponentLink2Description: Datasheet Link; ComponentLink2URL: https://www.we-online.com/redexpert/spec/7843734600056?ad; Mount: Surface Mount; Operating Temperature Max: 155°C; Operating Temperature Min: -55°C; Packaging: Tape and Reel; Length: 6.95mm; Width: 6.6mm; Height: 2.8mm; Inductance: 0.56uH; Performance Rated Current: 13.4A
footprint WE-LHCA_7030
pins: 1, 2

## 7843734600068
designator L?, comment 0.68uH, 12.4A  (value not drawn)
WE-LHCA Low Profile High Current Inductor, SMT, size 7030, 0.68uH, 12.4A; Manufacturer Part Number: 7843734600068; Manufacturer: Wurth Elektronik; Case/Size Code: 7030; DC Resistance: 4.7mOhm; Saturation Current: 17.7A; Category: Power Inductors; Match Code: WE-LHCA; ComponentLink1Description: Website Link; ComponentLink1URL: https://www.we-online.com/redexpert/article/7843734600068?ad; ComponentLink2Description: Datasheet Link; ComponentLink2URL: https://www.we-online.com/redexpert/spec/7843734600068?ad; Mount: Surface Mount; Operating Temperature Max: 155°C; Operating Temperature Min: -55°C; Packaging: Tape and Reel; Length: 6.95mm; Width: 6.6mm; Height: 2.8mm; Inductance: 0.68uH; Performance Rated Current: 12.4A
footprint WE-LHCA_7030
pins: 1, 2